# EAGLE library part 7-SEGMENT-1DIGIT-2.3' (library CalvEngIO-LED)
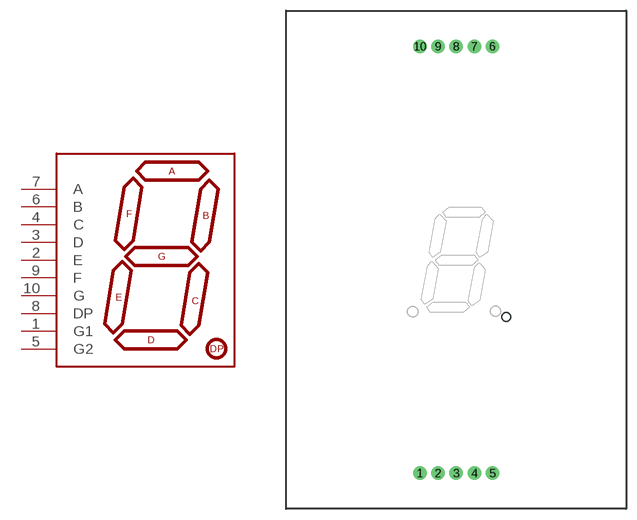
[diagram p1: symbol with the pads of 7-SEGMENT-2.3"PTH; footprint 7-SEGMENT-2.3"PTH]

Designator prefix LED

## 7-SEGMENT-1DIGIT-2.3'  [7-SEGMENT-2.3"PTH]
1  G1
2  E
3  D
4  C
5  G2
6  B
7  A
8  DP
9  F
10  G

## Footprint 7-SEGMENT-2.3"PTH (pad centres in mm)
7 Segment display Storefront SKU#: COM-08546
drill 1 pad 1.88: 1 -5.08,-29.925; 2 -2.54,-29.925; 3 0,-29.925; 4 2.54,-29.925; 5 5.08,-29.925; 6 5.08,29.925; 7 2.54,29.925; 8 0,29.925; 9 -2.54,29.925; 10 -5.08,29.925